# EAGLE library part LS7366R (library Encoder_SPI)
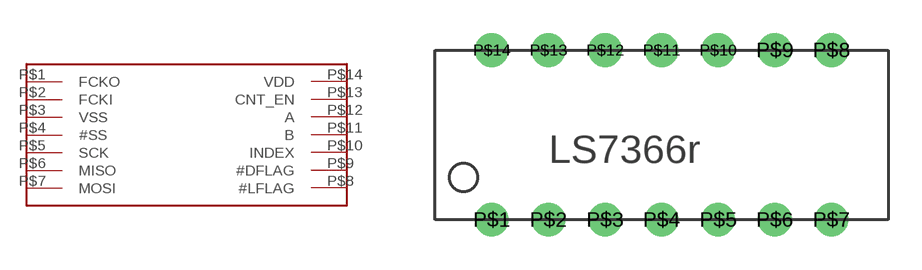
[diagram p0: symbol with the pads of PDIP; footprint PDIP]

Designator prefix -

## LS7366R  [PDIP]
P$1  FCKO
P$2  FCKI
P$3  VSS
P$4  #SS
P$5  SCK
P$6  MISO
P$7  MOSI
P$8  #LFLAG
P$9  #DFLAG
P$10  INDEX
P$11  B
P$12  A
P$13  CNT_EN
P$14  VDD

## Footprint PDIP (pad centres in mm)
drill 1 round: P$1 0,0; P$2 2.54,0; P$3 5.08,0; P$4 7.62,0; P$5 10.16,0; P$6 12.7,0; P$7 15.24,0; P$8 15.24,7.62; P$9 12.7,7.62; P$10 10.16,7.62; P$11 7.62,7.62; P$12 5.08,7.62; P$13 2.54,7.62; P$14 0,7.62